# EAGLE library part MT29F4G16ABADAWP (library LAB-PRIME)
4Gb, 8Gb, and 16Gb x8 NAND Flash Memory Source: http://download.micron.com/pdf/datasheets/flash/nand/4gb_nand_m40a.pdf
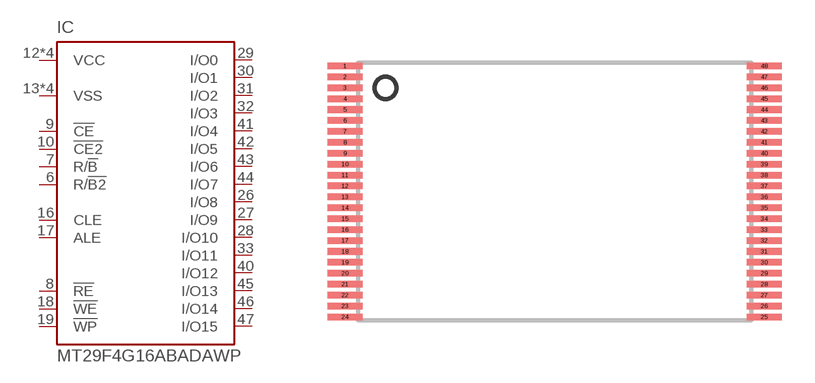
[diagram p1: symbol with the pads of TSOP48L; footprint TSOP48L]

Designator prefix IC

## MT29F4G16ABADAWP  [TSOP48L]
6  R/!B2  in
7  R/!B  in
8  !RE  in
9  !CE  in
10  !CE2  in
12  VCC  pwr
13  VSS  pwr
16  CLE  in
17  ALE  in
18  !WE  in
19  !WP  in
25  VSS  pwr
26  I/O8
27  I/O9
28  I/O10
29  I/O0
30  I/O1
31  I/O2
32  I/O3
33  I/O11
34  VCC  pwr
36  VSS  pwr
37  VCC  pwr
39  VCC  pwr
40  I/O12
41  I/O4
42  I/O5
43  I/O6
44  I/O7
45  I/O13
46  I/O14
47  I/O15
48  VSS  pwr

## Footprint TSOP48L (pad centres in mm)
Thin Small Outline Package
smd 1.6 x 0.3: 1 -9.6,5.75; 2 -9.6,5.25; 3 -9.6,4.75; 4 -9.6,4.25; 5 -9.6,3.75; 6 -9.6,3.25; 7 -9.6,2.75; 8 -9.6,2.25; 9 -9.6,1.75; 10 -9.6,1.25; 11 -9.6,0.75; 12 -9.6,0.25; 13 -9.6,-0.25; 14 -9.6,-0.75; 15 -9.6,-1.25; 16 -9.6,-1.75; 17 -9.6,-2.25; 18 -9.6,-2.75; 19 -9.6,-3.25; 20 -9.6,-3.75; 21 -9.6,-4.25; 22 -9.6,-4.75; 23 -9.6,-5.25; 24 -9.6,-5.75; 25 9.6,-5.75; 26 9.6,-5.25; 27 9.6,-4.75; 28 9.6,-4.25; 29 9.6,-3.75; 30 9.6,-3.25; 31 9.6,-2.75; 32 9.6,-2.25; 33 9.6,-1.75; 34 9.6,-1.25; 35 9.6,-0.75; 36 9.6,-0.25; 37 9.6,0.25; 38 9.6,0.75; 39 9.6,1.25; 40 9.6,1.75; 41 9.6,2.25; 42 9.6,2.75; 43 9.6,3.25; 44 9.6,3.75; 45 9.6,4.25; 46 9.6,4.75; 47 9.6,5.25; 48 9.6,5.75